# Altium footprint library WE-CAIR.PcbLib: 6 footprints
Each footprint in its own frame and in the unit in brackets; x right, y up, seen from the top. Pads: shape width x height; smd on the part's side, far side on the other; paste and mask are expansions set on the pad; w line width, h text height; cw(c..) or ccw(c..) is an arc to the next point about the centre after c.
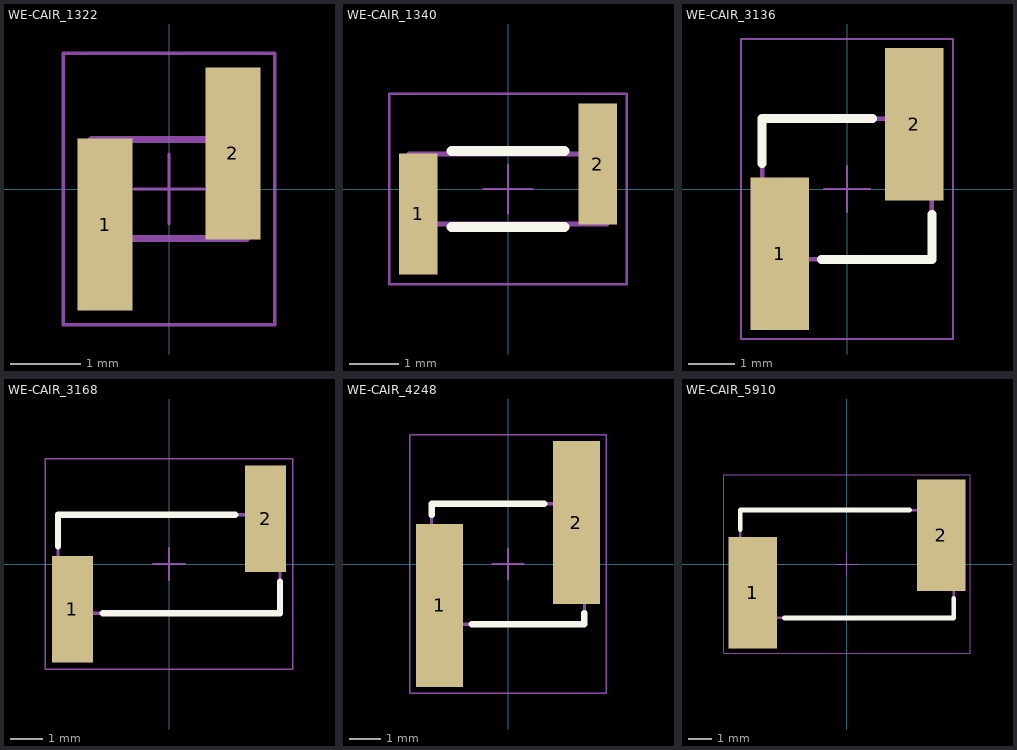
[diagram p0: the footprints below, top view; thin cyan lines are the x and y axes]

## WE-CAIR_1322 [mm] "SMD Inductor, 2-Leads, Body 1.42x2.21mm"
height 1.37
pads (2):
  rect 0.79x2.46 smd: 1(-0.915,-0.51) 2(0.915,0.51)
Top Designator:
  text ".Designator" at -2.499,-0.167 h0.5
Top Component Outline:
  lines w0.1: -1.105,-0.71 1.105,-0.71 1.105,1.6 0.725,1.6 0.725,0.71 ; -0.725,-0.71 -0.725,-1.6 -1.105,-1.6 -1.105,0.71 1.105,0.71
Top 3D Body:
  lines w0.1: -1.105,-0.71 1.105,-0.71 1.105,1.6 0.725,1.6 0.725,0.71 ; -0.725,-0.71 -0.725,-1.6 -1.105,-1.6 -1.105,0.71 1.105,0.71
Top Courtyard:
  lines w0.05: -0.5,0 0.5,0 ; 0,-0.5 0,0.5 ; -1.51,-1.94 -1.51,1.94 1.51,1.94 1.51,-1.94 -1.51,-1.94
3D body "1322_744910xxx.stp": height 1.36, standoff -0.01, extent -1.105,-1.6 1.105,1.6

## WE-CAIR_1340 [mm] "SMD Inductor, 2-Leads, Body 1.42x4.04mm"
height 1.37
pads (2):
  rect 0.79x2.46 smd: 1(-1.83,-0.51) 2(1.83,0.51)
Top Overlay:
  lines w0.2: -1.15,-0.775 1.15,-0.775 ; -1.15,0.775 1.15,0.775
Top Designator:
  text ".Designator" at -3.499,-0.233 h0.7
Top Component Outline:
  lines w0.1: -2.02,-0.71 2.02,-0.71 2.02,1.6 1.64,1.6 1.64,0.71 ; -1.64,-0.71 -1.64,-1.6 -2.02,-1.6 -2.02,0.71 2.02,0.71
Top 3D Body:
  lines w0.1: -2.02,-0.71 2.02,-0.71 2.02,1.6 1.64,1.6 1.64,0.71 ; -1.64,-0.71 -1.64,-1.6 -2.02,-1.6 -2.02,0.71 2.02,0.71
Top Courtyard:
  lines w0.05: -0.5,0 0.5,0 ; 0,-0.5 0,0.5 ; -2.425,-1.94 2.425,-1.94 2.425,1.94 -2.425,1.94 -2.425,-1.94
3D body "1340_744911xxx.stp": height 1.36, standoff -0.01, extent -1.99,-1.6 2.05,1.6

## WE-CAIR_3136 [mm] "Air coil, 2-Leads, body 3.68x3.05mm"
height 3.18
pads (2):
  rect 1.27x3.3 smd: 1(-1.46,-1.4) 2(1.46,1.4)
Top Overlay:
  lines w0.2: -1.84,0.55 -1.84,1.525 0.55,1.525 ; -0.55,-1.525 1.84,-1.525 1.84,-0.55
Top Designator:
  text ".Designator" at -3.999,-0.267 h0.8
Top Component Outline:
  lines w0.1: -1.84,-1.525 -1.84,1.525 1.84,1.525 1.84,-1.525 -1.84,-1.525
Top 3D Body:
  lines w0.1: -1.84,-1.525 -1.84,1.525 1.84,1.525 1.84,-1.525 -1.84,-1.525
Top Courtyard:
  lines w0.05: -0.5,0 0.5,0 ; 0,-0.5 0,0.5 ; -2.295,-3.25 2.295,-3.25 2.295,3.25 -2.295,3.25 -2.295,-3.25
3D body "WE-CAIR_3136_744913xxx.stp": height 3.18, standoff 0, extent -1.84,-1.83 1.84,1.83

## WE-CAIR_3168 [mm] "Air coil, 2-Leads, body 6.86x3.05mm"
height 3.18
pads (2):
  rect 1.27x3.3 smd: 1(-2.985,-1.4) 2(2.985,1.4)
Top Overlay:
  lines w0.2: -3.43,0.55 -3.43,1.525 2.05,1.525 ; -2.05,-1.525 3.43,-1.525 3.43,-0.55
Top Designator:
  text ".Designator" at -7.498,-0.5 h1.5
Top Component Outline:
  lines w0.1: -3.43,-1.525 3.43,-1.525 3.43,1.525 -3.43,1.525 -3.43,-1.525
Top 3D Body:
  lines w0.1: -3.43,-1.525 3.43,-1.525 3.43,1.525 -3.43,1.525 -3.43,-1.525
Top Courtyard:
  lines w0.05: -0.5,0 0.5,0 ; 0,-0.5 0,0.5 ; -3.82,-3.25 3.82,-3.25 3.82,3.25 -3.82,3.25 -3.82,-3.25
3D body "3168_744914xxx.stp": height 3.18, standoff 0, extent -3.43,-1.83 3.43,1.83

## WE-CAIR_4248 [mm] "SMD Inductor, 2-Leads, Body 3.81x4.83mm"
height 4.2
pads (2):
  rect 1.48x5.16 smd: 1(-2.165,-1.31) 2(2.165,1.31)
Top Overlay:
  lines w0.2: -2.415,1.55 -2.415,1.905 1.15,1.905 ; -1.15,-1.905 2.415,-1.905 2.415,-1.55
Top Designator:
  text ".Designator" at -7.498,-0.5 h1.5
Top Component Outline:
  lines w0.1: -2.355,-1.905 -2.355,-3.185 -1.975,-3.185 -1.975,-1.905 ; 1.975,1.905 1.975,3.185 2.355,3.185 2.355,1.905 ; -2.415,-1.905 -2.415,1.905 2.415,1.905 2.415,-1.905 -2.415,-1.905
Top 3D Body:
  lines w0.1: -2.355,-1.905 -2.355,-3.185 -1.975,-3.185 -1.975,-1.905 ; 1.975,1.905 1.975,3.185 2.355,3.185 2.355,1.905 ; -2.415,-1.905 -2.415,1.905 2.415,1.905 2.415,-1.905 -2.415,-1.905
Top Courtyard:
  lines w0.05: -0.5,0 0.5,0 ; 0,-0.5 0,0.5 ; -3.105,-4.09 -3.105,4.09 3.105,4.09 3.105,-4.09 -3.105,-4.09
3D body "4248_744912xxx.stp": height 4.18, standoff -0.02, extent -2.415,-3.18 2.415,3.18

## WE-CAIR_5910 [mm] "SMD Inductor, 2-Leads, Body 10.55x6.35mm"
height 5.9
pads (2):
  rect 2.04x4.7 smd: 1(-3.98,-1.21) 2(3.98,1.21)
Top Overlay:
  lines w0.2: -4.5,1.45 -4.5,2.275 2.65,2.275 ; -2.65,-2.275 4.5,-2.275 4.5,-1.45
Top Designator:
  text ".Designator" at -7.498,-0.5 h1.5
Top Component Outline:
  lines w0.1: -4.14,-2.275 -4.14,-3.175 -3.84,-3.175 -3.84,-2.275 ; 3.84,2.275 3.84,3.175 4.14,3.175 4.14,2.275 ; -4.5,-2.275 4.5,-2.275 4.5,2.275 -4.5,2.275 -4.5,-2.275
Top 3D Body:
  lines w0.1: -4.14,-2.275 -4.14,-3.175 -3.84,-3.175 -3.84,-2.275 ; 3.84,2.275 3.84,3.175 4.14,3.175 4.14,2.275 ; -4.5,-2.275 4.5,-2.275 4.5,2.275 -4.5,2.275 -4.5,-2.275
Top Courtyard:
  lines w0.05: -0.5,0 0.5,0 ; 0,-0.5 0,0.5 ; -5.2,-3.76 -5.2,3.76 5.2,3.76 5.2,-3.76 -5.2,-3.76
3D body "RfCAIR_5910.stp": height 4.35, standoff 0, extent -4.5,-3.17 4.5,3.17